# EAGLE library part MCP7940N (library ISS-Notify)
Low Power Real Time Clock
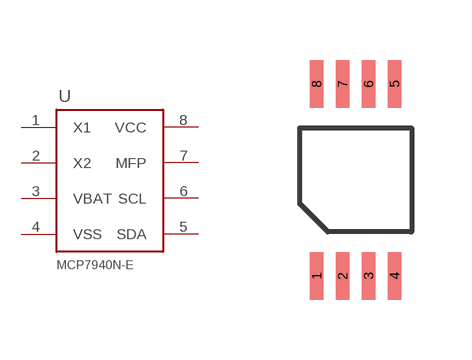
[diagram p3: symbol with the pads of MCP7940N; footprint MCP7940N]

Designator prefix U

## MCP7940N  [MCP7940N]
1  X1
2  X2
3  VBAT
4  VSS
5  SDA
6  SCL
7  MFP
8  VCC

## Footprint MCP7940N (pad centres in mm)
smd 0.34 x 1.19: 1 -0.975,-2.4; 2 -0.325,-2.4; 3 0.325,-2.4; 4 0.975,-2.4; 5 0.975,2.4; 6 0.325,2.4; 7 -0.325,2.4; 8 -0.975,2.4